# Altium footprint library 3.20-未分类器件.PcbLib: 53 footprints (part 2 of 4)
Each footprint in its own frame and in the unit in brackets; x right, y up, seen from the top. Pads: shape width x height; smd on the part's side, far side on the other; paste and mask are expansions set on the pad; w line width, h text height; cw(c..) or ccw(c..) is an arc to the next point about the centre after c.
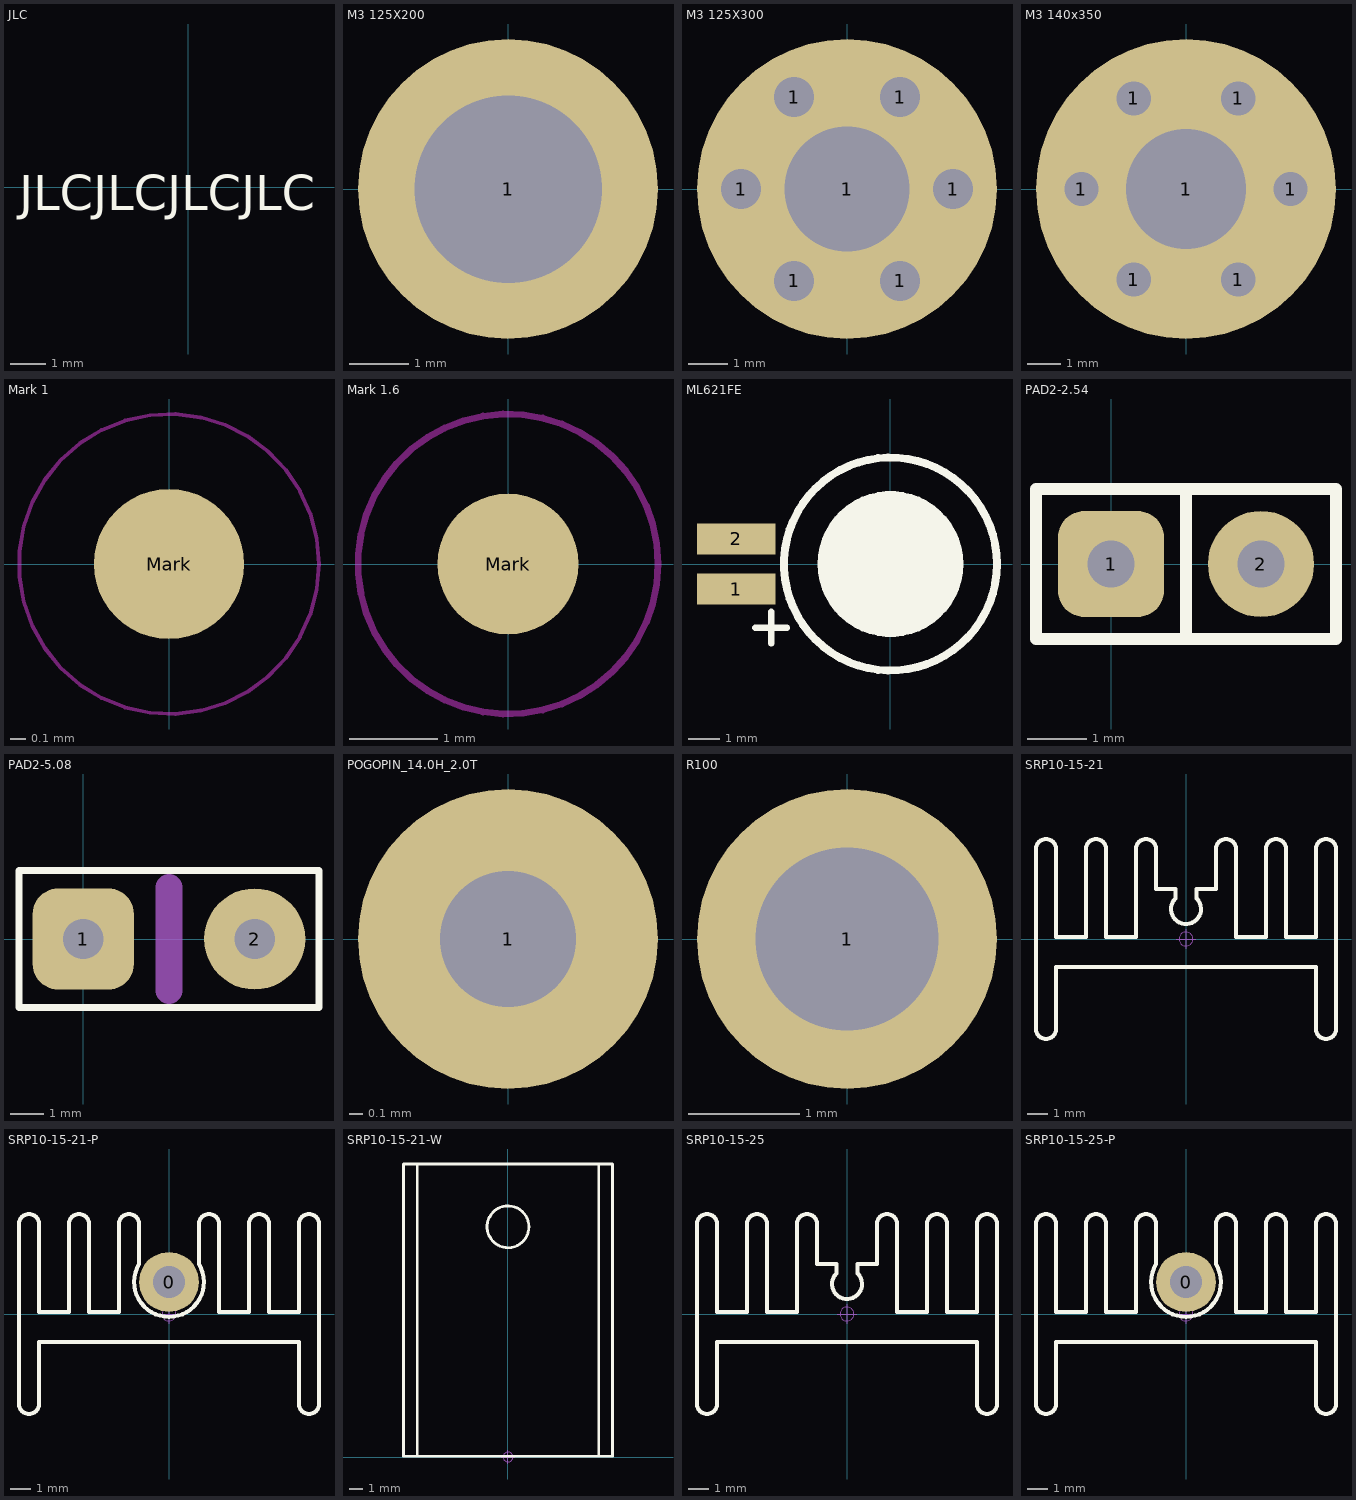
[diagram p1: the footprints below, top view; thin cyan lines are the x and y axes]

## JLC [mm] "嘉立创客编"
Top Overlay:
  text "JLCJLCJLCJLC" at -4.826,-0.65 h1

## M3 125X200 [mm] "M3螺丝孔，孔125Mil，焊盘200Mil"
pads (1):
  round 5.08 hole 3.175: 1(0,0)

## M3 125X300 [mil] "M3螺丝孔，孔125Mil，焊盘300Mil"
pads (7):
  round 40 hole 40: 1(-106,0) 1(-53,-91.8) 1(-53,91.8) 1(53,-91.8) 1(53,91.8) 1(106,0)
  round 300 hole 125: 1(0,0)

## M3 140x350 [mil] "M3螺丝孔，孔140Mil，焊盘350Mil"
pads (7):
  round 35 hole 40: 1(-122,0) 1(-61,-105.66) 1(-61,105.66) 1(61,-105.66) 1(61,105.66) 1(122,0)
  round 350 hole 140: 1(0,0)

## Mark 1 [mm] "光学定位点，直径1mm"
pads (1):
  round 1 smd paste+0 mask+0.5: Mark(0,0)
Top Layer keep-out:
  circle w0.025: c0,0 r1

## Mark 1.6 [mm] "光学定位点，直径1.6mm"
pads (1):
  round 1.6 smd paste-1.6 mask+0.9: Mark(0,0)
Top Layer keep-out:
  circle w0.076: c0,0 r1.704

## ML621FE [mm] "可充电纽扣电池"
pads (2):
  rect 2.5x1 smd: 1(-4.927,-0.8) 2(-4.927,0.8)
Top Overlay:
  circle w2.2: c0,0 r1.024
  circle w0.254: c0,0 r2.2
  circle w0.254: c0,0 r3.4
  lines w0.203: -4.318,-2.032 -3.302,-2.032 ; -3.81,-2.54 -3.81,-1.524
Mechanical 15:
  circle w0.05: c0,0 r0.35
  lines w0.05: -0.5,0 0.5,0 ; 0,-0.5 0,0.5
3D body "ML621FE.STEP": height 2.05, standoff -0.35, extent -5.5,-3.398 3.398,3.398

## PAD2-2.54 [mm] "引线焊盘"
pads (2):
  rrect50% 1.8x1.8 hole 0.8: 1(0,0)
  round 1.8 hole 0.8: 2(2.54,0)
Top Overlay:
  lines w0.203: 1.27,-1.27 1.27,1.27 ; -1.27,-1.27 3.81,-1.27 3.81,1.27 -1.27,1.27 -1.27,-1.27

## PAD2-5.08 [mm] "引线焊盘"
pads (2):
  rrect50% 3x3 hole 1.2: 1(0,0)
  round 3 hole 1.2: 2(5.08,0)
Top Overlay:
  lines w0.203: -1.905,-2.032 6.985,-2.032 6.985,2.032 -1.905,2.032 -1.905,-2.032
Mechanical 1:
  lines w0.8: 2.54,-1.524 2.54,1.524

## POGOPIN_14.0H_2.0T [mm] "测试点2.6mm"
pads (1):
  round 2.2 hole 1: 1(0,0)

## R100 [mm] "R100探针焊盘"
pads (1):
  round 2.7 hole 1.651: 1(0,0)

## SRP10-15-21 [mm] "10mm*15mm*21mm(长*宽*高)"
Top Overlay:
  lines w0.203: -7.5,-4.5 ccw(c-7,-4.5) -6.5,-4.5 -6.5,-1.4 6.5,-1.4 6.5,-4.5 ccw(c7,-4.5) 7.5,-4.5 7.5,4.5 ccw(c7,4.5) 6.5,4.5 6.5,0.1 5,0.1 5,4.5 ccw(c4.5,4.5) 4,4.5 4,0.1 2.5,0.1 2.5,4.5 ccw(c2,4.5) 1.5,4.5 1.5,2.494 0.533,2.494 0.533,2.026 0.555,2.004 cw(c0,1.5) -0.531,2.03 -0.533,2.032 -0.533,2.494 -1.5,2.494 -1.5,4.5 ccw(c-2,4.5) -2.5,4.5 -2.5,0.1 -4,0.1 -4,4.5 ccw(c-4.5,4.5) -5,4.5 -5,0.1 -6.5,0.1 -6.5,4.5 ccw(c-7,4.5) -7.5,4.5 -7.5,-4.5
Mechanical 15:
  circle w0.05: c0,0 r0.35
  lines w0.05: -0.5,0 0.5,0 ; 0,-0.5 0,0.5
3D body "SRP10-15-21.STEP": height 21.05, standoff 0.05, extent -7.5,-5 7.5,5

## SRP10-15-21-P [mm] "10mm*15mm*21mm(长*宽*高)"
pads (1):
  round 3 hole 1.6 unplated: 0(0,1.6)
Top Overlay:
  lines w0.203: -7.5,-4.5 ccw(c-7,-4.5) -6.5,-4.5 -6.5,-1.4 6.5,-1.4 6.5,-4.5 ccw(c7,-4.5) 7.5,-4.5 7.5,4.5 ccw(c7,4.5) 6.5,4.5 6.5,0.1 5,0.1 5,4.5 ccw(c4.5,4.5) 4,4.5 4,0.1 2.5,0.1 2.5,4.5 ccw(c2,4.5) 1.5,4.5 1.5,2.494 cw(c0,1.6) -1.5,2.494 -1.5,4.5 ccw(c-2,4.5) -2.5,4.5 -2.5,0.1 -4,0.1 -4,4.5 ccw(c-4.5,4.5) -5,4.5 -5,0.1 -6.5,0.1 -6.5,4.5 ccw(c-7,4.5) -7.5,4.5 -7.5,-4.5
Mechanical 15:
  circle w0.05: c0,0 r0.35
  lines w0.05: -0.5,0 0.5,0 ; 0,-0.5 0,0.5
3D body "SRP10-15-21-p.STEP": height 21.05, standoff -3.45, extent -7.5,-5.146 7.5,4.854

## SRP10-15-21-W [mm] "10mm*15mm*21mm(长*宽*高)"
Top Overlay:
  circle w0.203: c0,16.5 r1.5
  lines w0.203: -6.5,0.05 -6.5,21 ; 6.5,0.05 6.5,21 ; -7.5,0.05 7.5,0.05 7.5,21 -7.5,21 -7.5,0.05
Mechanical 15:
  circle w0.05: c0,0 r0.35
  lines w0.05: -0.5,0 0.5,0 ; 0,-0.5 0,0.5
3D body "SRP10-15-21-w.STEP": height 10.05, standoff 0.05, extent -7.5,0.1 7.5,21.1

## SRP10-15-25 [mm] "10mm*15mm*25mm(长*宽*高)"
Top Overlay:
  lines w0.203: -7.5,-4.5 ccw(c-7,-4.5) -6.5,-4.5 -6.5,-1.4 6.5,-1.4 6.5,-4.5 ccw(c7,-4.5) 7.5,-4.5 7.5,4.5 ccw(c7,4.5) 6.5,4.5 6.5,0.1 5,0.1 5,4.5 ccw(c4.5,4.5) 4,4.5 4,0.1 2.5,0.1 2.5,4.5 ccw(c2,4.5) 1.5,4.5 1.5,2.494 0.533,2.494 0.533,2.026 0.555,2.004 cw(c0,1.5) -0.531,2.03 -0.533,2.032 -0.533,2.494 -1.5,2.494 -1.5,4.5 ccw(c-2,4.5) -2.5,4.5 -2.5,0.1 -4,0.1 -4,4.5 ccw(c-4.5,4.5) -5,4.5 -5,0.1 -6.5,0.1 -6.5,4.5 ccw(c-7,4.5) -7.5,4.5 -7.5,-4.5
Mechanical 15:
  circle w0.05: c0,0 r0.35
  lines w0.05: -0.5,0 0.5,0 ; 0,-0.5 0,0.5
3D body "SRP10-15-25.STEP": height 25.15, standoff 0.15, extent -7.5,-5 7.5,5

## SRP10-15-25-P [mm] "10mm*15mm*25mm(长*宽*高)"
pads (1):
  round 3 hole 1.6 unplated: 0(0,1.6)
Top Overlay:
  lines w0.203: -7.5,-4.5 ccw(c-7,-4.5) -6.5,-4.5 -6.5,-1.4 6.5,-1.4 6.5,-4.5 ccw(c7,-4.5) 7.5,-4.5 7.5,4.5 ccw(c7,4.5) 6.5,4.5 6.5,0.1 5,0.1 5,4.5 ccw(c4.5,4.5) 4,4.5 4,0.1 2.5,0.1 2.5,4.5 ccw(c2,4.5) 1.5,4.5 1.5,2.494 cw(c0,1.6) -1.5,2.494 -1.5,4.5 ccw(c-2,4.5) -2.5,4.5 -2.5,0.1 -4,0.1 -4,4.5 ccw(c-4.5,4.5) -5,4.5 -5,0.1 -6.5,0.1 -6.5,4.5 ccw(c-7,4.5) -7.5,4.5 -7.5,-4.5
Mechanical 15:
  circle w0.05: c0,0 r0.35
  lines w0.05: -0.5,0 0.5,0 ; 0,-0.5 0,0.5
3D body "srp10-15-25-p.stp": height 25.05, standoff -3.45, extent -7.5,-5.019 7.5,4.981